# Altium schematic symbol library CON3.Schlib: 1 symbol
Pins are listed as number, name and electrical type; pins without a type are passive.

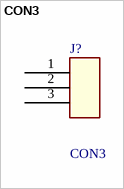
[diagram p0: symbol CON3]

## CON3
designator J?
pins: 1, 2, 3